# Altium footprint library IND_AMPLA5030S-6R8MT.PcbLib: 1 footprints
Each footprint in its own frame and in the unit in brackets; x right, y up, seen from the top. Pads: shape width x height; smd on the part's side, far side on the other; paste and mask are expansions set on the pad; w line width, h text height; cw(c..) or ccw(c..) is an arc to the next point about the centre after c.
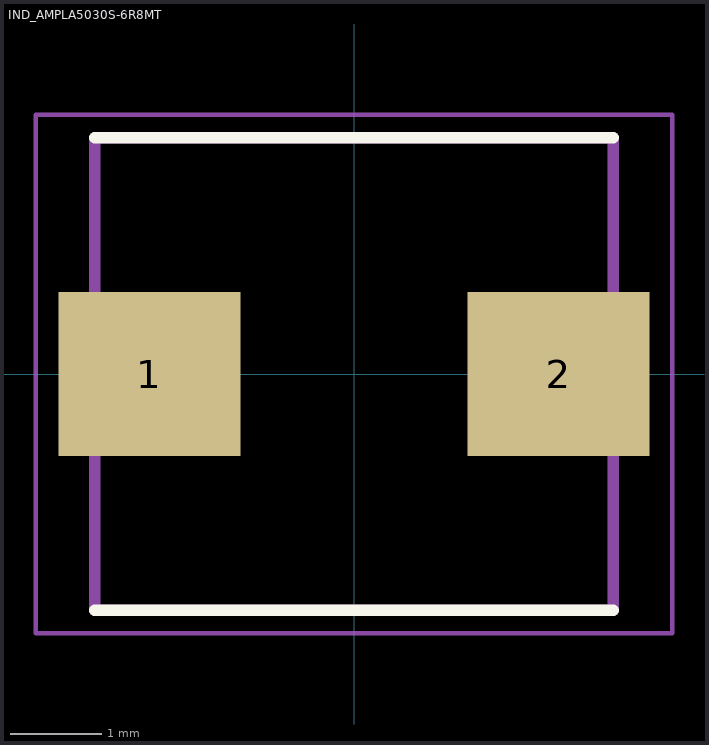
[diagram p0: the footprint, top view; thin cyan lines are the x and y axes]

## IND_AMPLA5030S-6R8MT [mm]
height 3
pads (2):
  rect 2x1.8 smd: 1(-2.25,0) 2(2.25,0)
Top Overlay:
  lines w0.127: -2.85,-2.6 2.85,-2.6 ; -2.85,2.6 2.85,2.6
Mechanical 13:
  lines w0.127: -2.85,-2.6 -2.85,2.6 2.85,2.6 2.85,-2.6 -2.85,-2.6
Mechanical 15:
  lines w0.05: -3.5,-2.85 -3.5,2.85 3.5,2.85 3.5,-2.85 -3.5,-2.85
3D body "step_temp.STEP": height 2.8, standoff -0.07, extent -2.92,-2.6 2.92,2.6